# Altium footprint library Dual-In-Line Package.PcbLib: 133 footprints (part 4 of 9)
Each footprint in its own frame and in the unit in brackets; x right, y up, seen from the top. Pads: shape width x height; smd on the part's side, far side on the other; paste and mask are expansions set on the pad; w line width, h text height; cw(c..) or ccw(c..) is an arc to the next point about the centre after c.
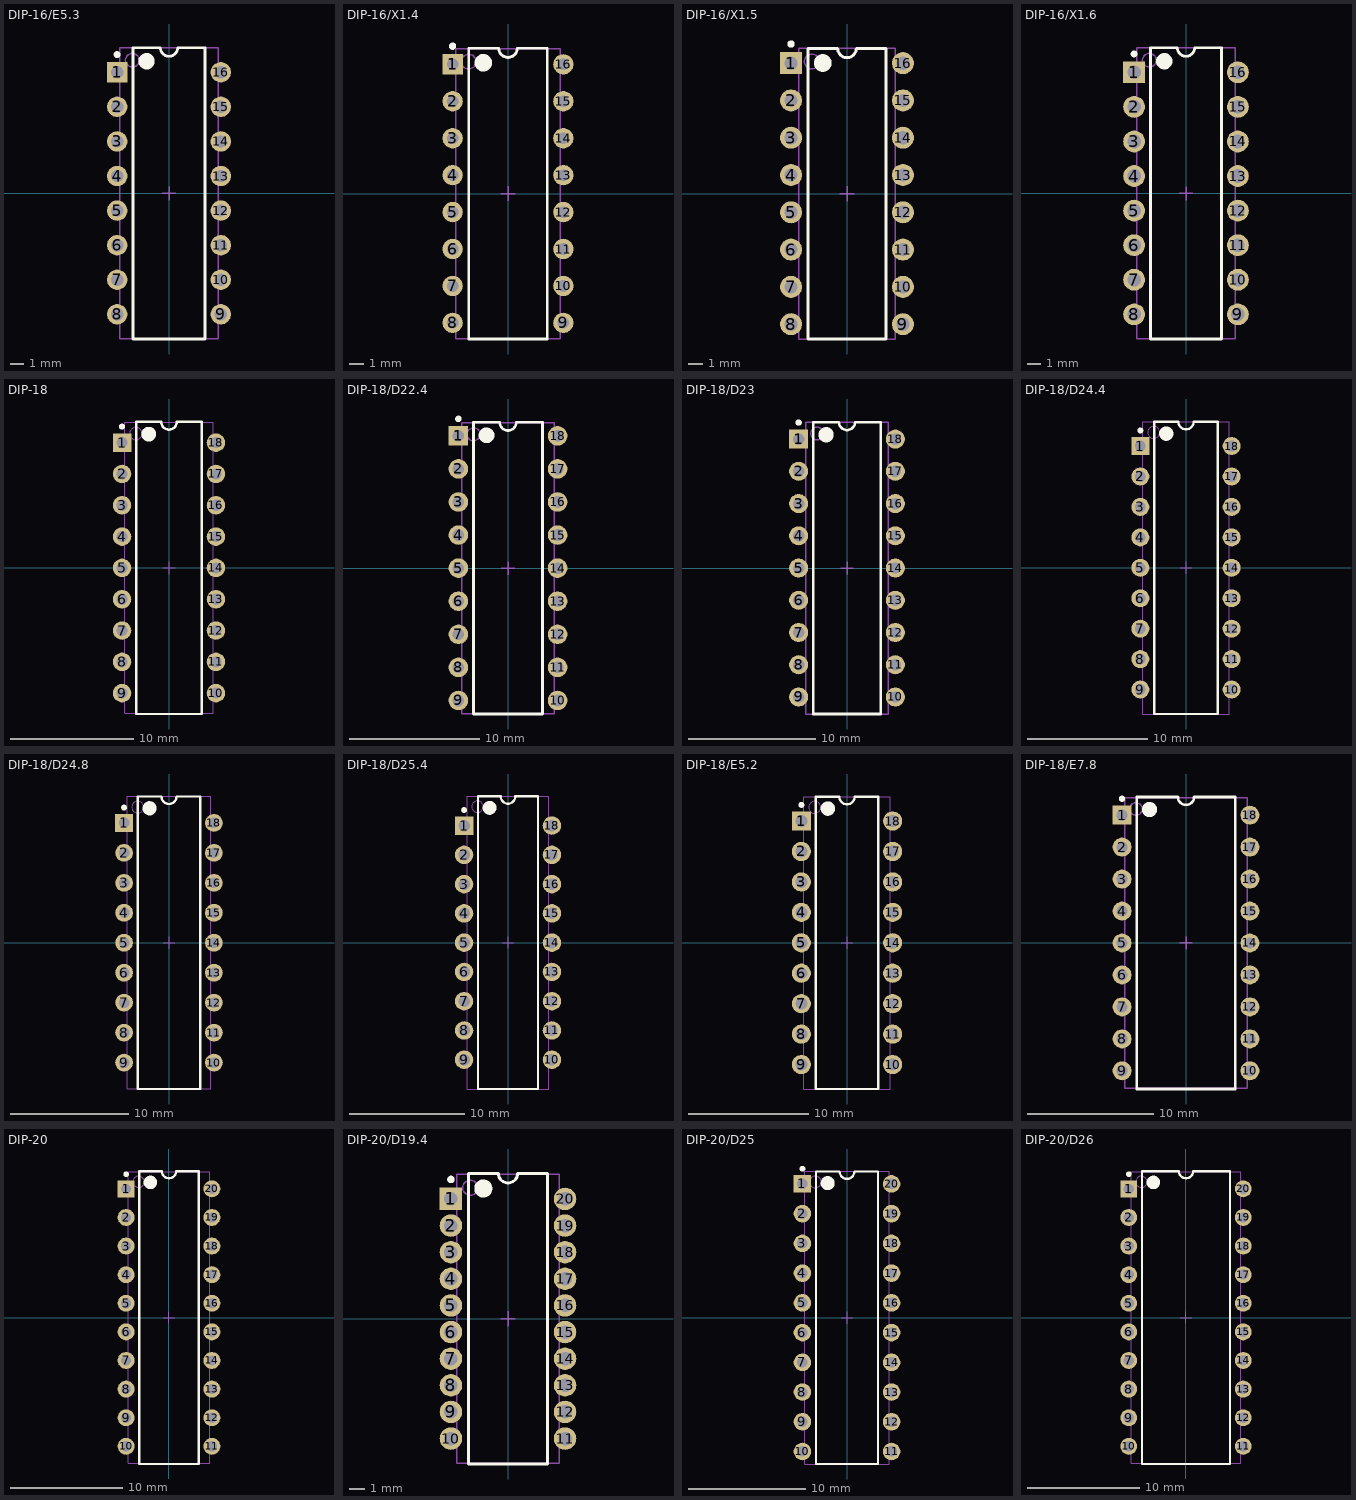
[diagram p3: the footprints below, top view; thin cyan lines are the x and y axes]

## DIP-16/E5.3 [mm] "DIP, 16-Pin, Row Spacing 7.62 mm, Pitch 2.54 mm"
height 5.08
pads (16):
  rect 1.5x1.5 hole 0.9: 1(-3.81,8.89)
  round 1.5 hole 0.9: 2(-3.81,6.35) 3(-3.81,3.81) 4(-3.81,1.27) 5(-3.81,-1.27) 6(-3.81,-3.81) 7(-3.81,-6.35) 8(-3.81,-8.89) 9(3.81,-8.89) 10(3.81,-6.35) 11(3.81,-3.81) 12(3.81,-1.27) 13(3.81,1.27) 14(3.81,3.81) 15(3.81,6.35) 16(3.81,8.89)
Top Overlay:
  circle w0.6: c-1.65,9.7 r0.3
  circle w0.25: c-3.81,10.19 r0.125
  lines w0.2: -2.65,-10.7 2.65,-10.7 2.65,10.7 0.635,10.7 cw(c0,10.7) -0.635,10.7 -2.65,10.7 -2.65,-10.7
Mechanical 13:
  circle w0.1: c-2.7,9.775 r0.5
  lines w0.1: -3.6,-10.675 3.6,-10.675 3.6,10.675 -3.6,10.675 -3.6,-10.675
Mechanical 15:
  lines w0.1: -0.5,0 0.5,0 ; 0,-0.5 0,0.5
3D body: height 5.08, standoff 0, extent -3.6,-10.675 3.6,10.675

## DIP-16/X1.4 [mm] "DIP, 16-Pin, Row Spacing 7.62 mm, Pitch 2.54 mm"
height 5.08
pads (16):
  rect 1.4x1.4 hole 0.8: 1(-3.81,8.89)
  round 1.4 hole 0.8: 2(-3.81,6.35) 3(-3.81,3.81) 4(-3.81,1.27) 5(-3.81,-1.27) 6(-3.81,-3.81) 7(-3.81,-6.35) 8(-3.81,-8.89) 9(3.81,-8.89) 10(3.81,-6.35) 11(3.81,-3.81) 12(3.81,-1.27) 13(3.81,1.27) 14(3.81,3.81) 15(3.81,6.35) 16(3.81,8.89)
Top Overlay:
  circle w0.6: c-1.7,9 r0.3
  circle w0.25: c-3.81,10.14 r0.125
  lines w0.2: -2.7,-10 2.7,-10 2.7,10 0.635,10 cw(c0,10) -0.635,10 -2.7,10 -2.7,-10
Mechanical 13:
  circle w0.1: c-2.7,9.075 r0.5
  lines w0.1: -3.6,-9.975 3.6,-9.975 3.6,9.975 -3.6,9.975 -3.6,-9.975
Mechanical 15:
  lines w0.1: -0.5,0 0.5,0 ; 0,-0.5 0,0.5
3D body: height 5.08, standoff 0, extent -3.6,-9.975 3.6,9.975

## DIP-16/X1.5 [mm] "DIP, 16-Pin, Row Spacing 7.62 mm, Pitch 2.54 mm"
height 5.33
pads (16):
  rect 1.5x1.5 hole 0.9: 1(-3.81,8.89)
  round 1.5 hole 0.9: 2(-3.81,6.35) 3(-3.81,3.81) 4(-3.81,1.27) 5(-3.81,-1.27) 6(-3.81,-3.81) 7(-3.81,-6.35) 8(-3.81,-8.89) 9(3.81,-8.89) 10(3.81,-6.35) 11(3.81,-3.81) 12(3.81,-1.27) 13(3.81,1.27) 14(3.81,3.81) 15(3.81,6.35) 16(3.81,8.89)
Top Overlay:
  circle w0.6: c-1.65,8.9 r0.3
  circle w0.25: c-3.81,10.19 r0.125
  lines w0.2: -2.65,-9.9 2.65,-9.9 2.65,9.9 0.635,9.9 cw(c0,9.9) -0.635,9.9 -2.65,9.9 -2.65,-9.9
Mechanical 13:
  circle w0.1: c-2.4,9 r0.5
  lines w0.1: -3.3,-9.9 3.3,-9.9 3.3,9.9 -3.3,9.9 -3.3,-9.9
Mechanical 15:
  lines w0.1: -0.5,0 0.5,0 ; 0,-0.5 0,0.5
3D body: height 5.33, standoff 0, extent -3.3,-9.9 3.3,9.9

## DIP-16/X1.6 [mm] "DIP, 16-Pin, Row Spacing 7.62 mm, Pitch 2.54 mm"
height 5.08
pads (16):
  rect 1.6x1.6 hole 1: 1(-3.81,8.89)
  round 1.6 hole 1: 2(-3.81,6.35) 3(-3.81,3.81) 4(-3.81,1.27) 5(-3.81,-1.27) 6(-3.81,-3.81) 7(-3.81,-6.35) 8(-3.81,-8.89) 9(3.81,-8.89) 10(3.81,-6.35) 11(3.81,-3.81) 12(3.81,-1.27) 13(3.81,1.27) 14(3.81,3.81) 15(3.81,6.35) 16(3.81,8.89)
Top Overlay:
  circle w0.6: c-1.6,9.7 r0.3
  circle w0.25: c-3.81,10.24 r0.125
  lines w0.2: -2.6,-10.7 2.6,-10.7 2.6,10.7 0.635,10.7 cw(c0,10.7) -0.635,10.7 -2.6,10.7 -2.6,-10.7
Mechanical 13:
  circle w0.1: c-2.7,9.775 r0.5
  lines w0.1: -3.6,-10.675 3.6,-10.675 3.6,10.675 -3.6,10.675 -3.6,-10.675
Mechanical 15:
  lines w0.1: -0.5,0 0.5,0 ; 0,-0.5 0,0.5
3D body: height 5.08, standoff 0, extent -3.6,-10.675 3.6,10.675

## DIP-18 [mm] "DIP, 18-Pin, Row Spacing 7.62 mm, Pitch 2.54 mm"
height 5.33
pads (18):
  rect 1.5x1.5 hole 0.9: 1(-3.81,10.16)
  round 1.5 hole 0.9: 2(-3.81,7.62) 3(-3.81,5.08) 4(-3.81,2.54) 5(-3.81,0) 6(-3.81,-2.54) 7(-3.81,-5.08) 8(-3.81,-7.62) 9(-3.81,-10.16) 10(3.81,-10.16) 11(3.81,-7.62) 12(3.81,-5.08) 13(3.81,-2.54) 14(3.81,0) 15(3.81,2.54) 16(3.81,5.08) 17(3.81,7.62) 18(3.81,10.16)
Top Overlay:
  circle w0.6: c-1.65,10.85 r0.3
  circle w0.25: c-3.81,11.46 r0.125
  lines w0.2: -2.65,-11.85 2.65,-11.85 2.65,11.85 0.635,11.85 cw(c0,11.85) -0.635,11.85 -2.65,11.85 -2.65,-11.85
Mechanical 13:
  circle w0.1: c-2.7,10.9 r0.5
  lines w0.1: -3.6,-11.8 3.6,-11.8 3.6,11.8 -3.6,11.8 -3.6,-11.8
Mechanical 15:
  lines w0.1: -0.5,0 0.5,0 ; 0,-0.5 0,0.5
3D body: height 5.33, standoff 0, extent -3.6,-11.8 3.6,11.8

## DIP-18/D22.4 [mm] "DIP, Plastic, 18-Pin, Row Spacing 7.62 mm, Pitch 2.54 mm"
height 5.34
pads (18):
  rect 1.5x1.5 hole 0.9: 1(-3.81,10.16)
  round 1.5 hole 0.9: 2(-3.81,7.62) 3(-3.81,5.08) 4(-3.81,2.54) 5(-3.81,0) 6(-3.81,-2.54) 7(-3.81,-5.08) 8(-3.81,-7.62) 9(-3.81,-10.16) 10(3.81,-10.16) 11(3.81,-7.62) 12(3.81,-5.08) 13(3.81,-2.54) 14(3.81,0) 15(3.81,2.54) 16(3.81,5.08) 17(3.81,7.62) 18(3.81,10.16)
Top Overlay:
  circle w0.6: c-1.65,10.2 r0.3
  circle w0.25: c-3.81,11.46 r0.125
  lines w0.2: -2.65,-11.2 2.65,-11.2 2.65,11.2 0.635,11.2 cw(c0,11.2) -0.635,11.2 -2.65,11.2 -2.65,-11.2
Mechanical 13:
  circle w0.1: c-2.65,10.275 r0.5
  lines w0.1: -3.55,-11.175 3.55,-11.175 3.55,11.175 -3.55,11.175 -3.55,-11.175
Mechanical 15:
  lines w0.1: -0.5,0 0.5,0 ; 0,-0.5 0,0.5
3D body: height 5.34, standoff 0, extent -3.55,-11.175 3.55,11.175

## DIP-18/D23 [mm] "DIP, 18-Pin, Row Spacing 7.62 mm, Pitch 2.54 mm"
height 4.56
pads (18):
  rect 1.5x1.5 hole 0.9: 1(-3.81,10.16)
  round 1.5 hole 0.9: 2(-3.81,7.62) 3(-3.81,5.08) 4(-3.81,2.54) 5(-3.81,0) 6(-3.81,-2.54) 7(-3.81,-5.08) 8(-3.81,-7.62) 9(-3.81,-10.16) 10(3.81,-10.16) 11(3.81,-7.62) 12(3.81,-5.08) 13(3.81,-2.54) 14(3.81,0) 15(3.81,2.54) 16(3.81,5.08) 17(3.81,7.62) 18(3.81,10.16)
Top Overlay:
  circle w0.6: c-1.65,10.5 r0.3
  circle w0.25: c-3.81,11.46 r0.125
  lines w0.2: -2.65,-11.5 2.65,-11.5 2.65,11.5 0.635,11.5 cw(c0,11.5) -0.635,11.5 -2.65,11.5 -2.65,-11.5
Mechanical 13:
  circle w0.1: c-2.35,10.6 r0.5
  lines w0.1: -3.25,-11.5 3.25,-11.5 3.25,11.5 -3.25,11.5 -3.25,-11.5
Mechanical 15:
  lines w0.1: -0.5,0 0.5,0 ; 0,-0.5 0,0.5
3D body: height 4.56, standoff 0, extent -3.25,-11.5 3.25,11.5

## DIP-18/D24.4 [mm] "DIP, 18-Pin, Row Spacing 7.62 mm, Pitch 2.54 mm"
height 5.08
pads (18):
  rect 1.5x1.5 hole 0.9: 1(-3.81,10.16)
  round 1.5 hole 0.9: 2(-3.81,7.62) 3(-3.81,5.08) 4(-3.81,2.54) 5(-3.81,0) 6(-3.81,-2.54) 7(-3.81,-5.08) 8(-3.81,-7.62) 9(-3.81,-10.16) 10(3.81,-10.16) 11(3.81,-7.62) 12(3.81,-5.08) 13(3.81,-2.54) 14(3.81,0) 15(3.81,2.54) 16(3.81,5.08) 17(3.81,7.62) 18(3.81,10.16)
Top Overlay:
  circle w0.6: c-1.65,11.2 r0.3
  circle w0.25: c-3.81,11.46 r0.125
  lines w0.2: -2.65,-12.2 2.65,-12.2 2.65,12.2 0.635,12.2 cw(c0,12.2) -0.635,12.2 -2.65,12.2 -2.65,-12.2
Mechanical 13:
  circle w0.1: c-2.7,11.3 r0.5
  lines w0.1: -3.6,-12.2 3.6,-12.2 3.6,12.2 -3.6,12.2 -3.6,-12.2
Mechanical 15:
  lines w0.1: -0.5,0 0.5,0 ; 0,-0.5 0,0.5
3D body: height 5.08, standoff 0, extent -3.6,-12.2 3.6,12.2

## DIP-18/D24.8 [mm] "DIP, 18-Pin, Row Spacing 7.62 mm, Pitch 2.54 mm"
height 5.1
pads (18):
  rect 1.5x1.5 hole 0.9: 1(-3.81,10.16)
  round 1.5 hole 0.9: 2(-3.81,7.62) 3(-3.81,5.08) 4(-3.81,2.54) 5(-3.81,0) 6(-3.81,-2.54) 7(-3.81,-5.08) 8(-3.81,-7.62) 9(-3.81,-10.16) 10(3.81,-10.16) 11(3.81,-7.62) 12(3.81,-5.08) 13(3.81,-2.54) 14(3.81,0) 15(3.81,2.54) 16(3.81,5.08) 17(3.81,7.62) 18(3.81,10.16)
Top Overlay:
  circle w0.6: c-1.65,11.4 r0.3
  circle w0.25: c-3.81,11.46 r0.125
  lines w0.2: -2.65,-12.4 2.65,-12.4 2.65,12.4 0.635,12.4 cw(c0,12.4) -0.635,12.4 -2.65,12.4 -2.65,-12.4
Mechanical 13:
  circle w0.1: c-2.65,11.5 r0.5
  lines w0.1: -3.55,-12.4 3.55,-12.4 3.55,12.4 -3.55,12.4 -3.55,-12.4
Mechanical 15:
  lines w0.1: -0.5,0 0.5,0 ; 0,-0.5 0,0.5
3D body: height 5.1, standoff 0, extent -3.55,-12.4 3.55,12.4

## DIP-18/D25.4 [mm] "DIP, 18-Pin, Row Spacing 7.62 mm, Pitch 2.54 mm"
height 5.08
pads (18):
  rect 1.6x1.6 hole 1: 1(-3.81,10.16)
  round 1.6 hole 1: 2(-3.81,7.62) 3(-3.81,5.08) 4(-3.81,2.54) 5(-3.81,0) 6(-3.81,-2.54) 7(-3.81,-5.08) 8(-3.81,-7.62) 9(-3.81,-10.16) 10(3.81,-10.16) 11(3.81,-7.62) 12(3.81,-5.08) 13(3.81,-2.54) 14(3.81,0) 15(3.81,2.54) 16(3.81,5.08) 17(3.81,7.62) 18(3.81,10.16)
Top Overlay:
  circle w0.6: c-1.6,11.7 r0.3
  circle w0.25: c-3.81,11.51 r0.125
  lines w0.2: -2.6,-12.7 2.6,-12.7 2.6,12.7 0.635,12.7 cw(c0,12.7) -0.635,12.7 -2.6,12.7 -2.6,-12.7
Mechanical 13:
  circle w0.1: c-2.65,11.8 r0.5
  lines w0.1: -3.55,-12.7 3.55,-12.7 3.55,12.7 -3.55,12.7 -3.55,-12.7
Mechanical 15:
  lines w0.1: -0.5,0 0.5,0 ; 0,-0.5 0,0.5
3D body: height 5.08, standoff 0, extent -3.55,-12.7 3.55,12.7

## DIP-18/E5.2 [mm] "DIP, 18-Pin, Row Spacing 7.62 mm, Pitch 2.54 mm"
height 5.08
pads (18):
  rect 1.6x1.6 hole 1: 1(-3.81,10.16)
  round 1.6 hole 1: 2(-3.81,7.62) 3(-3.81,5.08) 4(-3.81,2.54) 5(-3.81,0) 6(-3.81,-2.54) 7(-3.81,-5.08) 8(-3.81,-7.62) 9(-3.81,-10.16) 10(3.81,-10.16) 11(3.81,-7.62) 12(3.81,-5.08) 13(3.81,-2.54) 14(3.81,0) 15(3.81,2.54) 16(3.81,5.08) 17(3.81,7.62) 18(3.81,10.16)
Top Overlay:
  circle w0.6: c-1.6,11.2 r0.3
  circle w0.25: c-3.81,11.51 r0.125
  lines w0.2: -2.6,-12.2 2.6,-12.2 2.6,12.2 0.635,12.2 cw(c0,12.2) -0.635,12.2 -2.6,12.2 -2.6,-12.2
Mechanical 13:
  circle w0.1: c-2.7,11.3 r0.5
  lines w0.1: -3.6,-12.2 3.6,-12.2 3.6,12.2 -3.6,12.2 -3.6,-12.2
Mechanical 15:
  lines w0.1: -0.5,0 0.5,0 ; 0,-0.5 0,0.5
3D body: height 5.08, standoff 0, extent -3.6,-12.2 3.6,12.2

## DIP-18/E7.8 [mm] "DIP, Ceramic, 18-Pin, Row Spacing 10.16 mm, Pitch 2.54 mm"
height 3.56
pads (18):
  rect 1.5x1.5 hole 0.9: 1(-5.08,10.16)
  round 1.5 hole 0.9: 2(-5.08,7.62) 3(-5.08,5.08) 4(-5.08,2.54) 5(-5.08,0) 6(-5.08,-2.54) 7(-5.08,-5.08) 8(-5.08,-7.62) 9(-5.08,-10.16) 10(5.08,-10.16) 11(5.08,-7.62) 12(5.08,-5.08) 13(5.08,-2.54) 14(5.08,0) 15(5.08,2.54) 16(5.08,5.08) 17(5.08,7.62) 18(5.08,10.16)
Top Overlay:
  circle w0.6: c-2.9,10.6 r0.3
  circle w0.25: c-5.08,11.46 r0.125
  lines w0.2: -3.9,-11.6 3.9,-11.6 3.9,11.6 0.635,11.6 cw(c0,11.6) -0.635,11.6 -3.9,11.6 -3.9,-11.6
Mechanical 13:
  circle w0.1: c-3.975,10.65 r0.5
  lines w0.1: -4.875,-11.55 4.875,-11.55 4.875,11.55 -4.875,11.55 -4.875,-11.55
Mechanical 15:
  lines w0.1: -0.5,0 0.5,0 ; 0,-0.5 0,0.5
3D body: height 3.56, standoff 0, extent -4.875,-11.55 4.875,11.55

## DIP-20 [mm] "DIP, 20-Pin, Row Spacing 7.62 mm, Pitch 2.54 mm"
height 5.08
pads (20):
  rect 1.5x1.5 hole 0.9: 1(-3.81,11.43)
  round 1.5 hole 0.9: 2(-3.81,8.89) 3(-3.81,6.35) 4(-3.81,3.81) 5(-3.81,1.27) 6(-3.81,-1.27) 7(-3.81,-3.81) 8(-3.81,-6.35) 9(-3.81,-8.89) 10(-3.81,-11.43) 11(3.81,-11.43) 12(3.81,-8.89) 13(3.81,-6.35) 14(3.81,-3.81) 15(3.81,-1.27) 16(3.81,1.27) 17(3.81,3.81) 18(3.81,6.35) 19(3.81,8.89) 20(3.81,11.43)
Top Overlay:
  circle w0.6: c-1.65,12 r0.3
  circle w0.25: c-3.81,12.73 r0.125
  lines w0.2: -2.65,-13 2.65,-13 2.65,13 0.635,13 cw(c0,13) -0.635,13 -2.65,13 -2.65,-13
Mechanical 13:
  circle w0.1: c-2.7,12.05 r0.5
  lines w0.1: -3.6,-12.95 3.6,-12.95 3.6,12.95 -3.6,12.95 -3.6,-12.95
Mechanical 15:
  lines w0.1: -0.5,0 0.5,0 ; 0,-0.5 0,0.5
3D body: height 5.08, standoff 0, extent -3.6,-12.95 3.6,12.95

## DIP-20/D19.4 [mm] "DIP, Plastic Shrink, 20-Pin, Row Spacing 7.62 mm, Pitch 1.778 mm"
height 5.08
pads (20):
  rect 1.5x1.5 hole 0.9: 1(-3.81,8.001)
  round 1.5 hole 0.9: 2(-3.81,6.223) 3(-3.81,4.445) 4(-3.81,2.667) 5(-3.81,0.889) 6(-3.81,-0.889) 7(-3.81,-2.667) 8(-3.81,-4.445) 9(-3.81,-6.223) 10(-3.81,-8.001) 11(3.81,-8.001) 12(3.81,-6.223) 13(3.81,-4.445) 14(3.81,-2.667) 15(3.81,-0.889) 16(3.81,0.889) 17(3.81,2.667) 18(3.81,4.445) 19(3.81,6.223) 20(3.81,8.001)
Top Overlay:
  circle w0.6: c-1.65,8.7 r0.3
  circle w0.25: c-3.81,9.301 r0.125
  lines w0.2: -2.65,-9.7 2.65,-9.7 2.65,9.7 0.635,9.7 cw(c0,9.7) -0.635,9.7 -2.65,9.7 -2.65,-9.7
Mechanical 13:
  circle w0.1: c-2.525,8.75 r0.5
  lines w0.1: -3.425,-9.65 3.425,-9.65 3.425,9.65 -3.425,9.65 -3.425,-9.65
Mechanical 15:
  lines w0.1: -0.5,0 0.5,0 ; 0,-0.5 0,0.5
3D body: height 5.08, standoff 0, extent -3.425,-9.65 3.425,9.65

## DIP-20/D25 [mm] "20-Pin Ceramic Dual In-Line Package (CerDIP)"
height 5.08
pads (20):
  rect 1.5x1.5 hole 0.9: 1(-3.81,11.43)
  round 1.5 hole 0.9: 2(-3.81,8.89) 3(-3.81,6.35) 4(-3.81,3.81) 5(-3.81,1.27) 6(-3.81,-1.27) 7(-3.81,-3.81) 8(-3.81,-6.35) 9(-3.81,-8.89) 10(-3.81,-11.43) 11(3.81,-11.43) 12(3.81,-8.89) 13(3.81,-6.35) 14(3.81,-3.81) 15(3.81,-1.27) 16(3.81,1.27) 17(3.81,3.81) 18(3.81,6.35) 19(3.81,8.89) 20(3.81,11.43)
Top Overlay:
  circle w0.6: c-1.65,11.5 r0.3
  circle w0.25: c-3.81,12.73 r0.125
  lines w0.2: -2.65,-12.5 2.65,-12.5 2.65,12.5 0.635,12.5 cw(c0,12.5) -0.635,12.5 -2.65,12.5 -2.65,-12.5
Mechanical 13:
  circle w0.1: c-2.7,11.6 r0.5
  lines w0.1: -3.6,-12.5 3.6,-12.5 3.6,12.5 -3.6,12.5 -3.6,-12.5
Mechanical 15:
  lines w0.1: -0.5,0 0.5,0 ; 0,-0.5 0,0.5
3D body: height 5.08, standoff 0, extent -3.6,-12.5 3.6,12.5

## DIP-20/D26 [mm] "DIP, Ceramic, 20-Pin, Row Spacing 10.16 mm, Pitch 2.54 mm"
height 5.08
pads (20):
  rect 1.5x1.5 hole 0.9: 1(-5.08,11.43)
  round 1.5 hole 0.9: 2(-5.08,8.89) 3(-5.08,6.35) 4(-5.08,3.81) 5(-5.08,1.27) 6(-5.08,-1.27) 7(-5.08,-3.81) 8(-5.08,-6.35) 9(-5.08,-8.89) 10(-5.08,-11.43) 11(5.08,-11.43) 12(5.08,-8.89) 13(5.08,-6.35) 14(5.08,-3.81) 15(5.08,-1.27) 16(5.08,1.27) 17(5.08,3.81) 18(5.08,6.35) 19(5.08,8.89) 20(5.08,11.43)
Top Overlay:
  circle w0.6: c-2.9,12 r0.3
  circle w0.25: c-5.08,12.73 r0.125
  lines w0.2: -3.9,-13 3.9,-13 3.9,13 0.635,13 cw(c0,13) -0.635,13 -3.9,13 -3.9,-13
Mechanical 13:
  circle w0.1: c-3.95,12.05 r0.5
  lines w0.1: -4.85,-12.95 4.85,-12.95 4.85,12.95 -4.85,12.95 -4.85,-12.95
Mechanical 15:
  lines w0.1: -0.5,0 0.5,0 ; 0,-0.5 0,0.5
3D body: height 5.08, standoff 0, extent -4.85,-12.95 4.85,12.95